# Altium footprint library SOP50P2000X120-48N.PcbLib: 1 footprints
Each footprint in its own frame and in the unit in brackets; x right, y up, seen from the top. Pads: shape width x height; smd on the part's side, far side on the other; paste and mask are expansions set on the pad; w line width, h text height; cw(c..) or ccw(c..) is an arc to the next point about the centre after c.
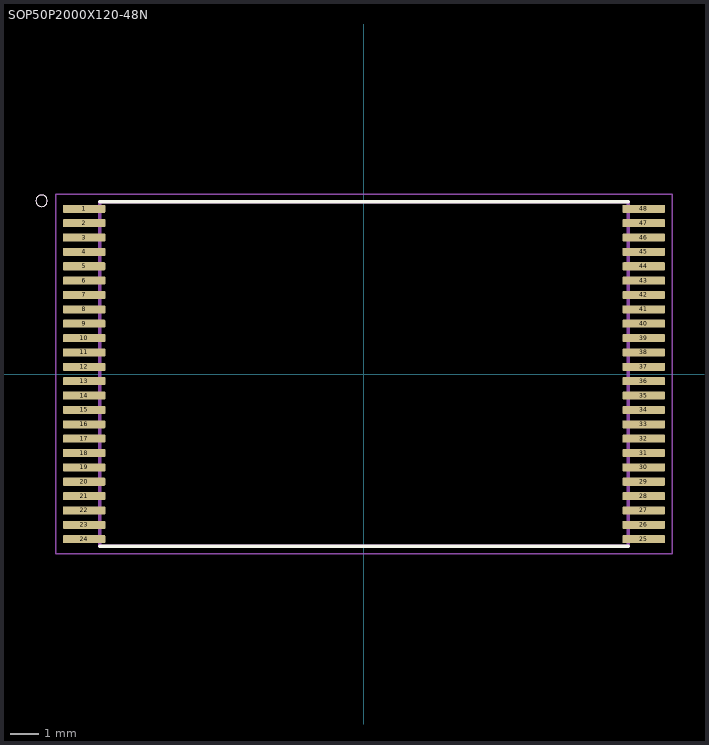
[diagram p0: the footprint, top view; thin cyan lines are the x and y axes]

## SOP50P2000X120-48N [mm]
pads (48):
  rrect25% 1.48x0.28 smd: 1(-9.74,5.75) 2(-9.74,5.25) 3(-9.74,4.75) 4(-9.74,4.25) 5(-9.74,3.75) 6(-9.74,3.25) 7(-9.74,2.75) 8(-9.74,2.25) 9(-9.74,1.75) 10(-9.74,1.25) 11(-9.74,0.75) 12(-9.74,0.25) 13(-9.74,-0.25) 14(-9.74,-0.75) 15(-9.74,-1.25) 16(-9.74,-1.75) 17(-9.74,-2.25) 18(-9.74,-2.75) 19(-9.74,-3.25) 20(-9.74,-3.75) 21(-9.74,-4.25) 22(-9.74,-4.75) 23(-9.74,-5.25) 24(-9.74,-5.75) 25(9.74,-5.75) 26(9.74,-5.25) 27(9.74,-4.75) 28(9.74,-4.25) 29(9.74,-3.75) 30(9.74,-3.25) 31(9.74,-2.75) 32(9.74,-2.25) 33(9.74,-1.75) 34(9.74,-1.25) 35(9.74,-0.75) 36(9.74,-0.25) 37(9.74,0.25) 38(9.74,0.75) 39(9.74,1.25) 40(9.74,1.75) 41(9.74,2.25) 42(9.74,2.75) 43(9.74,3.25) 44(9.74,3.75) 45(9.74,4.25) 46(9.74,4.75) 47(9.74,5.25) 48(9.74,5.75)
Top Overlay:
  circle w0: c-11.22,6.03 r0.2
  lines w0.127: -9.2,-6 9.2,-6 ; -9.2,6 9.2,6
Mechanical 13:
  circle w0: c-11.22,6.03 r0.2
  lines w0.127: -9.2,-6 9.2,-6 9.2,6 -9.2,6 -9.2,-6
Mechanical 15:
  lines w0.05: -10.73,-6.25 10.73,-6.25 10.73,6.25 -10.73,6.25 -10.73,-6.25